# Altium schematic symbol library IC_POWER_LIB.SchLib: 3 symbols
Pins are listed as number, name and electrical type; pins without a type are passive.

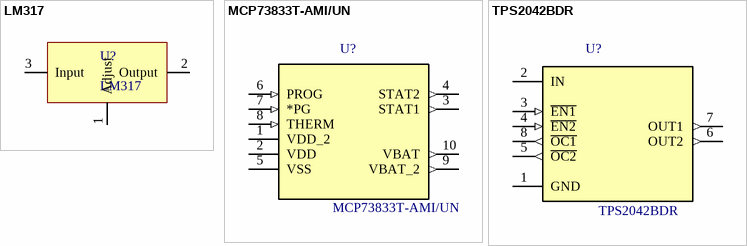
[diagram p0: symbols LM317 to TPS2042BDR]

## LM317
designator U?
footprint LM317
pins: 1 Adjust, 2 Output, 3 Input

## MCP73833T-AMI/UN
designator U?
Linear Charge Management Controller Li-Ion/Li-Pol 1mA 4.2V/4.35V/4.4V/4.5V 10-Pin MSOP T/R; MF: Microchip; Digi-Key_Part_Number: MCP73833T-AMI/UNCT-ND; MP: MCP73833T-AMI/UN; SnapEDA_Link: https://www.snapeda.com/parts/MCP73833T-AMI/UN/Microchip/view-part/?ref=snap; Digi-Key_Purchase_URL: https://www.digikey.com/product-detail/en/microchip-technology/MCP73833T-AMI-UN/MCP73833T-AMI-UNCT-ND/5818702?utm_source=snapeda&utm_medium=aggregator&utm_campaign=symbol; Package: MSOP-10 Microchip; Value: *
footprint SOP50P490X110-10N
pins: 1 VDD_2 (power), 2 VDD (power), 3 STAT1 (out), 4 STAT2 (out), 5 VSS, 6 PROG (in), 7 *PG (in), 8 THERM (in), 9 VBAT_2 (out), 10 VBAT (out)

## TPS2042BDR
designator U?
Dual, Current-Limited, Power-Distribution Switches 8-SOIC -40 to 85; MF: Texas Instruments; MP: TPS2042BDR; SnapEDA_Link: https://www.snapeda.com/parts/TPS2042BDR/Texas%20Instruments/view-part/?ref=snap; Package: SOIC-8 Texas Instruments; Digi-Key_Purchase_URL: https://www.digikey.com/product-detail/en/texas-instruments/TPS2042BDR/296-17002-1-ND/656532?utm_source=snapeda&utm_medium=aggregator&utm_campaign=symbol; Digi-Key_Part_Number: 296-17002-1-ND; Value: *
footprint SOIC127P600X175-8N
pins: 1 GND, 2 IN (power), 3 ~{EN1} (in), 4 ~{EN2} (in), 5 ~{OC2} (out), 6 OUT2 (out), 7 OUT1 (out), 8 ~{OC1} (out)